# Altium footprint library Switcher.PcbLib: 12 footprints
Each footprint in its own frame and in the unit in brackets; x right, y up, seen from the top. Pads: shape width x height; smd on the part's side, far side on the other; paste and mask are expansions set on the pad; w line width, h text height; cw(c..) or ccw(c..) is an arc to the next point about the centre after c.
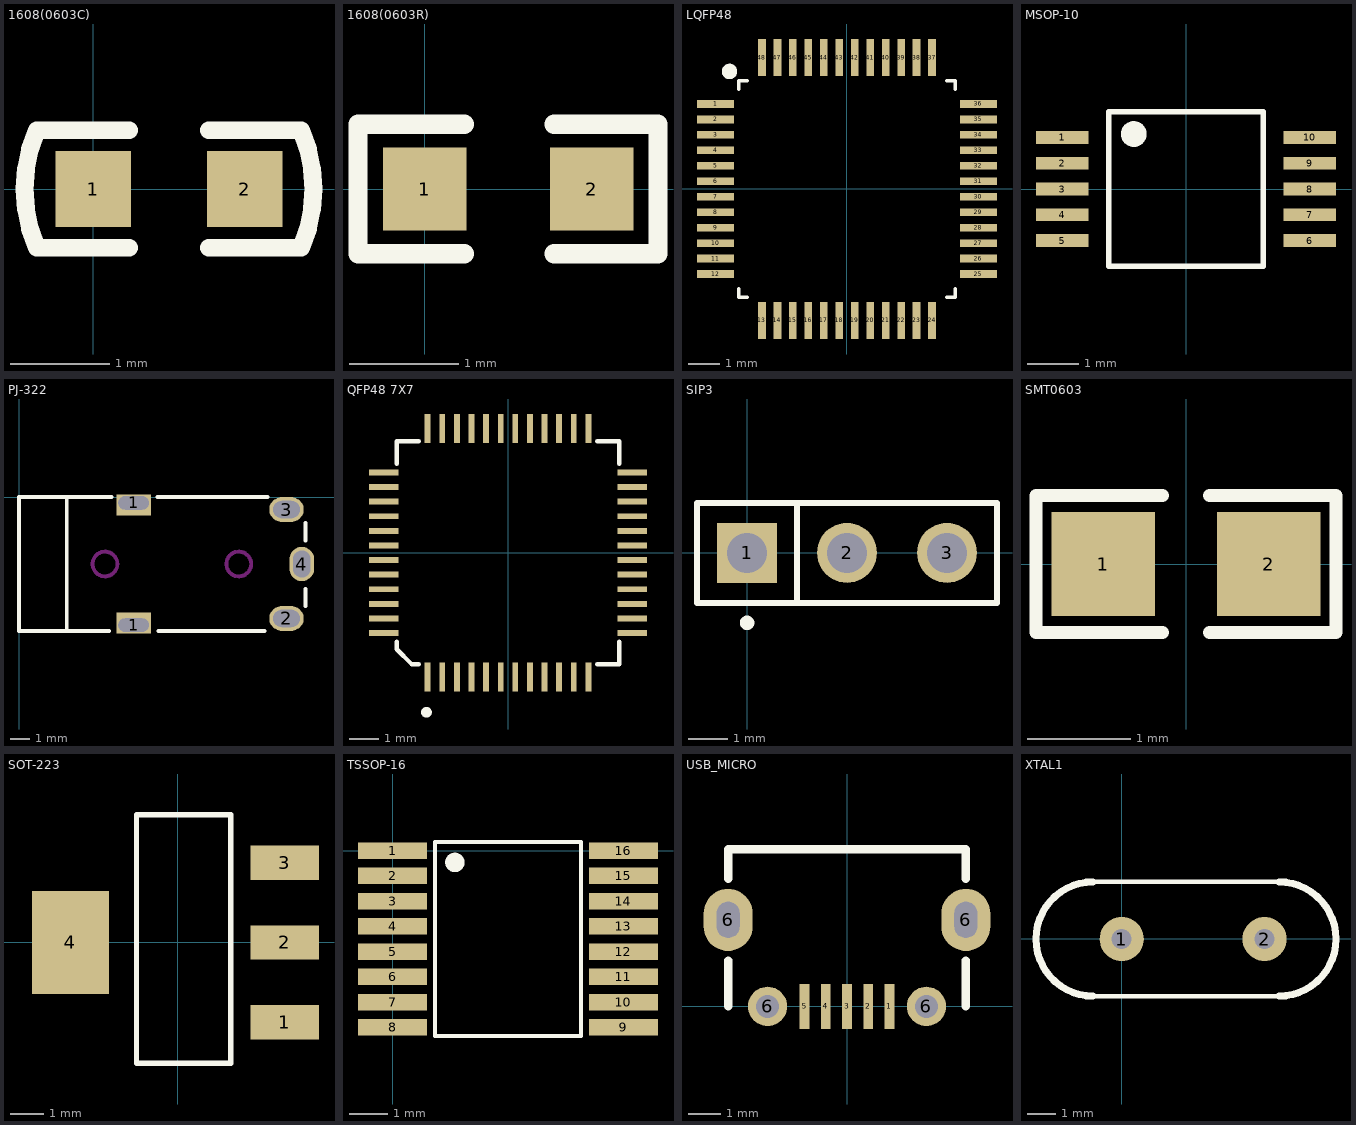
[diagram p0: the footprints below, top view; thin cyan lines are the x and y axes]

## 1608(0603C) [mil]
pads (2):
  rect 30x30 smd: 1(0,0) 2(60,0)
Top Overlay:
  lines w7: 14.22,-23.23 -22.33,-23.23 cw(c31.1,0) -22.33,23.23 14.22,23.23 ; 45.78,-23.23 82.33,-23.23 ccw(c28.9,0) 82.33,23.23 45.78,23.23

## 1608(0603R) [mil]
pads (2):
  rect 30x30 smd: 1(0,0) 2(60,0)
Top Overlay:
  lines w7: 14.22,-23.23 -24.02,-23.23 -24.02,23.23 14.22,23.23 ; 46.46,-23.23 83.86,-23.23 83.86,23.23 46.46,23.23

## LQFP48 [mm]
height 1.6
pads (48):
  rect 1.2x0.25 smd: 1(-4.25,2.75) 2(-4.25,2.25) 3(-4.25,1.75) 4(-4.25,1.25) 5(-4.25,0.75) 6(-4.25,0.25) 7(-4.25,-0.25) 8(-4.25,-0.75) 9(-4.25,-1.25) 10(-4.25,-1.75) 11(-4.25,-2.25) 12(-4.25,-2.75) 25(4.25,-2.75) 26(4.25,-2.25) 27(4.25,-1.75) 28(4.25,-1.25) 29(4.25,-0.75) 30(4.25,-0.25) 31(4.25,0.25) 32(4.25,0.75) 33(4.25,1.25) 34(4.25,1.75) 35(4.25,2.25) 36(4.25,2.75)
  rect 0.25x1.2 smd: 13(-2.75,-4.25) 14(-2.25,-4.25) 15(-1.75,-4.25) 16(-1.25,-4.25) 17(-0.75,-4.25) 18(-0.25,-4.25) 19(0.25,-4.25) 20(0.75,-4.25) 21(1.25,-4.25) 22(1.75,-4.25) 23(2.25,-4.25) 24(2.75,-4.25) 37(2.75,4.25) 38(2.25,4.25) 39(1.75,4.25) 40(1.25,4.25) 41(0.75,4.25) 42(0.25,4.25) 43(-0.25,4.25) 44(-0.75,4.25) 45(-1.25,4.25) 46(-1.75,4.25) 47(-2.25,4.25) 48(-2.75,4.25)
Top Overlay:
  circle w0.25: c-3.8,3.8 r0.125
  lines w0.1: -3.5,-3.226 -3.5,-3.5 -3.226,-3.5 ; -3.5,3.226 -3.5,3.5 -3.226,3.5 ; 3.226,-3.5 3.5,-3.5 3.5,-3.226 ; 3.226,3.5 3.5,3.5 3.5,3.226

## MSOP-10 [mm]
height 0.9
pads (10):
  rect 1.02x0.25 smd: 1(-2.4,1) 2(-2.4,0.5) 3(-2.4,0) 4(-2.4,-0.5) 5(-2.4,-1) 6(2.4,-1) 7(2.4,-0.5) 8(2.4,0) 9(2.4,0.5) 10(2.4,1)
Top Overlay:
  circle w0.25: c-1.014,1.067 r0.125
  lines w0.1: -1.5,-1.5 1.5,-1.5 1.5,1.5 -1.5,1.5 -1.5,-1.5

## PJ-322 [mm]
pads (5):
  rect 1.8x1.1 hole 0.7 slot 1.6 at 0 deg copper offset 0,0.1: 1(6,-6.7)
  rect 1.8x1.1 hole 0.7 slot 1.6 at 0 deg copper offset 0,-0.1: 1(6,-0.3)
  oval 1.8x1.3 hole 0.9 slot 1.4 at 0 deg: 2(14,-6.35) 3(14,-0.65)
  oval 1.3x1.8 hole 0.9 slot 1.4 at 90 deg: 4(14.8,-3.5)
Top Overlay:
  lines w0.2: 2.5,-7 2.5,0 ; 4.724,-7 0,-7 0,0 4.851,0 ; 7.239,0 13.005,0 ; 7.29,-7 12.852,-7 ; 15,-5.715 15,-4.801 ; 15,-2.286 15,-1.346
Keep-Out Layer:
  circle w0.2: c11.5,-3.5 r0.65
  circle w0.2: c4.5,-3.5 r0.65

## QFP48 7X7 [mm]
height 2
pads (48):
  rect 0.2x1 smd: 1(-2.75,-4.25) 2(-2.25,-4.25) 3(-1.75,-4.25) 4(-1.25,-4.25) 5(-0.75,-4.25) 6(-0.25,-4.25) 7(0.25,-4.25) 8(0.75,-4.25) 9(1.25,-4.25) 10(1.75,-4.25) 11(2.25,-4.25) 12(2.75,-4.25) 25(2.75,4.25) 26(2.25,4.25) 27(1.75,4.25) 28(1.25,4.25) 29(0.75,4.25) 30(0.25,4.25) 31(-0.25,4.25) 32(-0.75,4.25) 33(-1.25,4.25) 34(-1.75,4.25) 35(-2.25,4.25) 36(-2.75,4.25)
  rect 1x0.2 smd: 13(4.25,-2.75) 14(4.25,-2.25) 15(4.25,-1.75) 16(4.25,-1.25) 17(4.25,-0.75) 18(4.25,-0.25) 19(4.25,0.25) 20(4.25,0.75) 21(4.25,1.25) 22(4.25,1.75) 23(4.25,2.25) 24(4.25,2.75) 37(-4.25,2.75) 38(-4.25,2.25) 39(-4.25,1.75) 40(-4.25,1.25) 41(-4.25,0.75) 42(-4.25,0.25) 43(-4.25,-0.25) 44(-4.25,-0.75) 45(-4.25,-1.25) 46(-4.25,-1.75) 47(-4.25,-2.25) 48(-4.25,-2.75)
Top Overlay:
  circle w0.25: c-2.792,-5.461 r0.059
  lines w0.152: -3.81,-3.048 -3.81,-3.302 -3.302,-3.81 -3.048,-3.81 ; -3.81,3.048 -3.81,3.81 -3.048,3.81 ; 3.048,-3.81 3.81,-3.81 3.81,-3.048 ; 3.048,3.81 3.81,3.81 3.81,3.048

## SIP3 [mil]
height 275.98
pads (3):
  rect 60x60 hole 40: 1(0,0)
  round 60 hole 40: 2(100,0) 3(200,0)
Top Overlay:
  circle w9.84: c0.08,-70 r2.31
  lines w6: 50,-50 50,50 ; -50,-50 250,-50 250,50 -50,50 -50,-50

## SMT0603 [mm] "SMT LED"
height 0.85
pads (2):
  rect 1x1 smd: 1(-0.8,0) 2(0.8,0)
Top Overlay:
  lines w0.127: -0.229,-0.66 -1.448,-0.66 -1.448,0.66 -0.229,0.66 ; 0.229,-0.66 1.448,-0.66 1.448,0.66 0.229,0.66

## SOT-223 [mil]
height 39.37
pads (4):
  rect 80x40 smd: 1(125,-93) 2(125,0) 3(125,93)
  rect 90x120 smd: 4(-125,0)
Top Overlay:
  lines w6: -48,-141 -48,149 62,149 62,-141 -48,-141

## TSSOP-16 [mm]
height 1.1
pads (16):
  rect 1.78x0.42 smd: 1(0,0) 2(0,-0.65) 3(0,-1.3) 4(0,-1.95) 5(0,-2.6) 6(0,-3.25) 7(0,-3.9) 8(0,-4.55) 9(5.94,-4.55) 10(5.94,-3.9) 11(5.94,-3.25) 12(5.94,-2.6) 13(5.94,-1.95) 14(5.94,-1.3) 15(5.94,-0.65) 16(5.94,0)
Top Overlay:
  circle w0.25: c1.602,-0.305 r0.125
  lines w0.1: 4.851,-4.775 1.092,-4.775 1.092,0.225 4.851,0.225 ; 4.851,-4.771 4.851,0.229

## USB_MICRO [mil] "USB Micro SMT 5S B"
height 118.11
pads (9):
  rect 11.81x54 smd: 1(51,0) 2(25.5,0) 3(0,0) 4(-25.5,0) 5(-51,0)
  oval 59.06x74.8 hole 27.56 slot 43.31 at 90 deg: 6(-143,104) 6(143,104)
  round 47.24 hole 27.5: 6(-95.5,0) 6(95.5,0)
Top Overlay:
  lines w10: -142.72,0 -142.72,55.12 ; -142.72,153.54 -142.72,188.98 142.72,188.98 142.72,153.54 ; 142.72,0 142.72,55.12

## XTAL1 [mil]
height 78.74
pads (2):
  round 62 hole 28: 1(-0.36,-0.2) 2(199.64,-0.2)
Top Overlay:
  lines w6.3: -40.36,-80.2 219.64,-80.2 ; -40.36,79.8 219.64,79.8
  lines w10: -40.36,-80.2 cw(c-40.36,-0.2) -40.36,79.8 ; 219.64,-80.2 ccw(c219.64,-0.2) 219.64,79.8